# EAGLE library part LB1930MC (library custom_parts)
1-Motor Full Bridge from ON Semiconductors (2.2-10.8V)
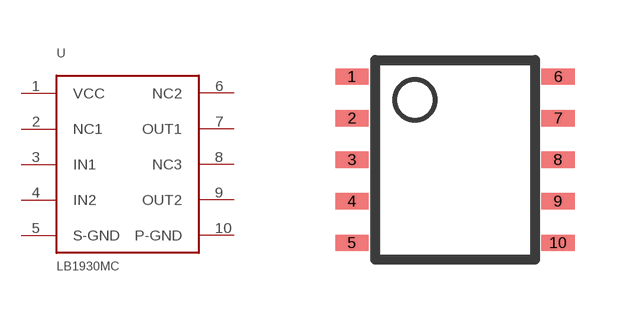
[diagram p0: symbol with the pads of LB1930MC; footprint LB1930MC]

Designator prefix -

## LB1930MCSMD  [LB1930MC]
1  VCC
2  NC1
3  IN1
4  IN2
5  S-GND
6  NC2
7  OUT1
8  NC3
9  OUT2
10  P-GND

## Footprint LB1930MC (pad centres in mm)
Single Motor Full Bridge from ON Semiconductors. Rating (2.2-10.8V).
smd 0.833 x 0.406: 1 -2.58,2.08; 2 -2.58,1.04; 3 -2.58,0; 4 -2.58,-1.04; 5 -2.58,-2.08; 6 2.58,2.08; 7 2.58,1.04; 8 2.58,0; 9 2.58,-1.04; 10 2.58,-2.08